# Altium footprint library PcbLib1.PcbLib: 5 footprints
Each footprint in its own frame and in the unit in brackets; x right, y up, seen from the top. Pads: shape width x height; smd on the part's side, far side on the other; paste and mask are expansions set on the pad; w line width, h text height; cw(c..) or ccw(c..) is an arc to the next point about the centre after c.
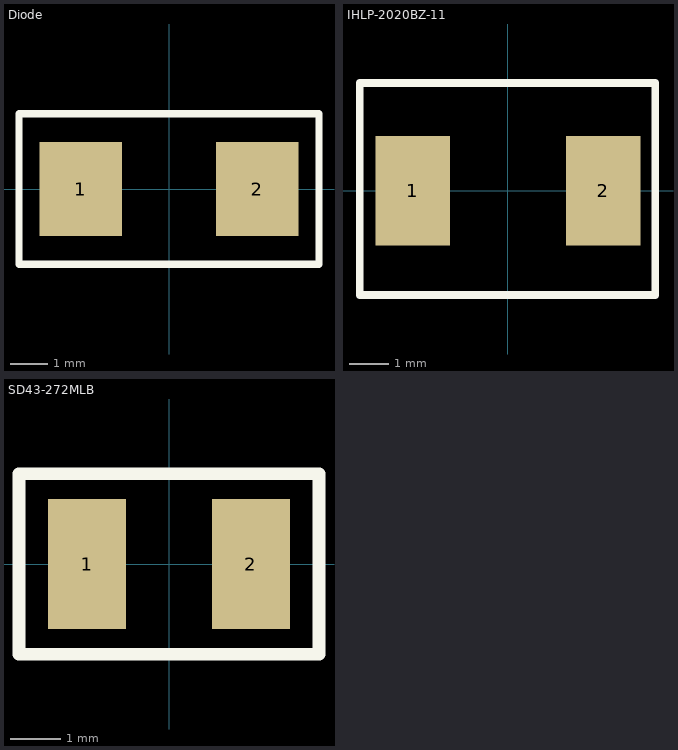
[diagram p0: the footprints below, top view; thin cyan lines are the x and y axes]

## Diode [mm]
pads (2):
  rect 2.2x2.5 smd: 1(-2.35,0) 2(2.35,0)
Top Overlay:
  lines w0.2: -4,-2 4,-2 4,2 -4,2 -4,-2

## ICK BGA 23 x 23 x 10 [mm] "23 x 23 x 10 mm, heatsink for IC design BGA and others"
height 10
3D body: height 12.01, standoff 2.01, extent -11.625,-11.825 11.375,11.175

## IHLP-2020BZ-11 [mm]
pads (2):
  rect 1.905x2.79 smd: 1(-2.425,0) 2(2.426,0)
Top Overlay:
  lines w0.2: -3.775,-2.65 -3.775,2.75 3.75,2.75 3.75,-2.65 -3.775,-2.65
3D body: height 1.93, standoff 0.01, extent -2.725,-2.575 2.725,2.571

## PCBComponent_1 [mm]

## SD43-272MLB [mil]
pads (2):
  rect 61x102 smd: 1(-64.5,0) 2(64.5,0)
Top Overlay:
  lines w10: -118,-71 -118,71 -84,71 118,71 118,-71 -118,-71